# Altium schematic symbol library NX1117CE.SchLib: 1 symbol
Pins are listed as number, name and electrical type; pins without a type are passive.

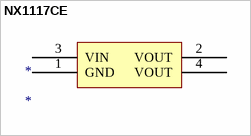
[diagram p0: symbol NX1117CE]

## NX1117CE
designator *
Low-dropout linear regulator; ComponentLink1URL: http://www.nxp.com/documents/data_sheet/NX1117C_NX1117CE_SER.pdf; ComponentLink1Description: Datasheet
footprint SOT223_L (Footprint not found)
pins: 1 GND (power), 2 VOUT (power), 3 VIN (power), 4 VOUT (power)